# Altium schematic symbol library 901471107.SchLib: 1 symbol
Pins are listed as number, name and electrical type; pins without a type are passive.

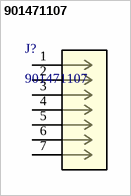
[diagram p0: symbol 901471107]

## 901471107
designator J?
C-Grid III PC Board Connector, Single Row, Vertical, 7 Circuits, Tin (Sn) Plating; Manufacturer_Name: Molex; Copyright: Copyright (C) 2026 Ultra Librarian. All rights reserved.; Manufacturer_Part_Number: 901471107; RefDes: RefDes; Type: Type
footprint CONN07_901471107_MOL
pins: 1, 2, 3, 4, 5, 6, 7